# Altium footprint library SAMTEC_SSM-120-X-DV.PcbLib: 1 footprints
Each footprint in its own frame and in the unit in brackets; x right, y up, seen from the top. Pads: shape width x height; smd on the part's side, far side on the other; paste and mask are expansions set on the pad; w line width, h text height; cw(c..) or ccw(c..) is an arc to the next point about the centre after c.
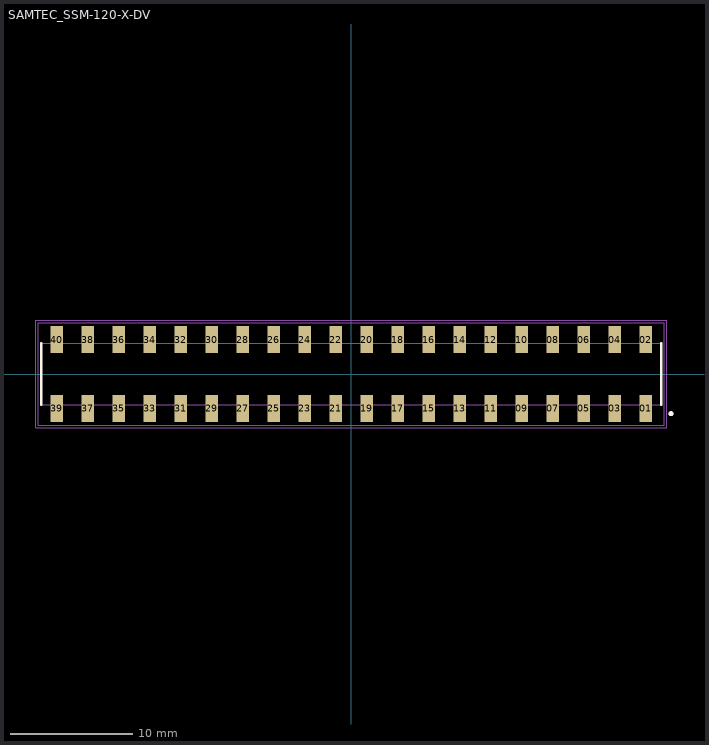
[diagram p0: the footprint, top view; thin cyan lines are the x and y axes]

## SAMTEC_SSM-120-X-DV [mm]
pads (40):
  rect 1.02x2.22 smd: 01(24.13,-2.825) 02(24.13,2.825) 03(21.59,-2.825) 04(21.59,2.825) 05(19.05,-2.825) 06(19.05,2.825) 07(16.51,-2.825) 08(16.51,2.825) 09(13.97,-2.825) 10(13.97,2.825) 11(11.43,-2.825) 12(11.43,2.825) 13(8.89,-2.825) 14(8.89,2.825) 15(6.35,-2.825) 16(6.35,2.825) 17(3.81,-2.825) 18(3.81,2.825) 19(1.27,-2.825) 20(1.27,2.825) 21(-1.27,-2.825) 22(-1.27,2.825) 23(-3.81,-2.825) 24(-3.81,2.825) 25(-6.35,-2.825) 26(-6.35,2.825) 27(-8.89,-2.825) 28(-8.89,2.825) 29(-11.43,-2.825) 30(-11.43,2.825) 31(-13.97,-2.825) 32(-13.97,2.825) 33(-16.51,-2.825) 34(-16.51,2.825) 35(-19.05,-2.825) 36(-19.05,2.825) 37(-21.59,-2.825) 38(-21.59,2.825) 39(-24.13,-2.825) 40(-24.13,2.825)
Top Overlay:
  circle w0.2: c26.2,-3.25 r0.1
  lines w0.2: -25.4,-2.54 -25.4,2.54 ; 25.4,-2.54 25.4,2.54
Top Paste:
  drawing of 40 lines, arcs and shapes, not listed
Mechanical 13:
  circle w0.2: c26.2,-3.25 r0.1
  lines w0.1: -25.85,-4.387 -25.85,4.387 25.85,4.387 25.85,-4.387 -25.85,-4.387 ; -25.4,-2.54 -25.4,2.54 25.4,2.54 25.4,-2.54 -25.4,-2.54
Mechanical 15:
  lines w0.05: -25.65,-4.185 25.65,-4.185 25.65,4.185 -25.65,4.185 -25.65,-4.185